# EAGLE library part 734-244 (library con-wago_3.81mm)
Serie 734, Stiftleiste (für Leiterplatten) Einlötstift gerade 1 x 1 mm / Series 734, Male header (for PCBs) Straight solder pin 1 x 1 mm Polzahl / Pole No.: 14 Rastermaß / Pitch: 3.81 mm Bemessungsspannung / Rated Voltage: 160 V Nennstrom / Nominal Current: 10 A Lötstiftlänge: / Solder Pin Length: 4.5 mm Farbe / Color: orange / orange Stand: 01.01.2012. Die jeweils aktuellen Daten zu diesem Artikel finden Sie in unserem Produktkatalog, den Sie unter www.wago.com einsehen können. As of: 01/01/2012. Please find the newest data for this article in our product catalogue, which can be viewed under www.wago.com.
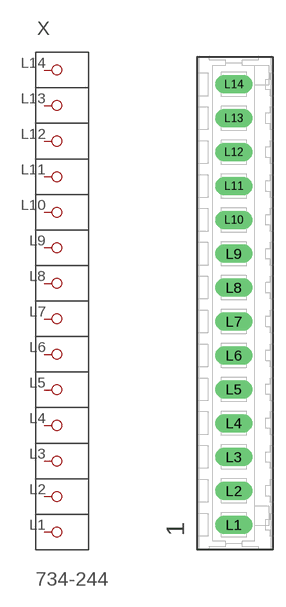
[diagram p5: symbol with the pads of P-734-244; footprint P-734-244]

Designator prefix X

## 734-244  [P-734-244]
L1  P1
L2  P2
L3  P3
L4  P4
L5  P5
L6  P6
L7  P7
L8  P8
L9  P9
L10  P10
L11  P11
L12  P12
L13  P13
L14  P14

## Footprint P-734-244 (pad centres in mm)
drill 1.4 long: L1 -0.1,-24.915; L2 -0.1,-21.105; L3 -0.1,-17.295; L4 -0.1,-13.485; L5 -0.1,-9.675; L6 -0.1,-5.865; L7 -0.1,-2.055; L8 -0.1,1.755; L9 -0.1,5.565; L10 -0.1,9.375; L11 -0.1,13.185; L12 -0.1,16.995; L13 -0.1,20.805; L14 -0.1,24.615